# EAGLE library part 3-440054-7 (library 3-440054-7)
HPI 2.0mm,HDR,4posVertical,Red Check availability <https://pricing.snapeda.com/parts/3-440054-7/TE%20Connectivity%20AMP%20Connectors/view-part?ref=eda>
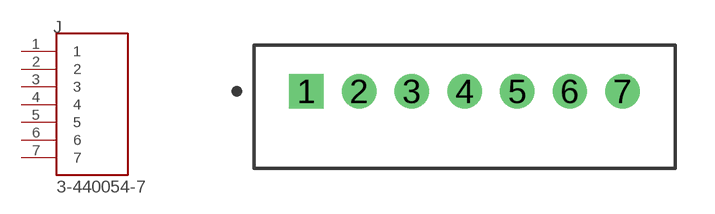
[diagram p0: symbol with the pads of TE_3-440054-7; footprint TE_3-440054-7]

Designator prefix J

## 3-440054-7 (Availability: In Stock; Description: Connector Header Through Hole 7 position 0.079 (2.00mm); MF: TE Connectivity AMP Connectors; MP: 3-440054-7; Package: None; Price: None)  [TE_3-440054-7]
1  1  pas
2  2  pas
3  3  pas
4  4  pas
5  5  pas
6  6  pas
7  7  pas

## Footprint TE_3-440054-7 (pad centres in mm)
drill 0.8 pad 1.15 square: 1 0,0
drill 0.8 pad 1.15: 2 2.007,0; 3 4.013,0; 4 6.02,0; 5 8.026,0; 6 10.033,0; 7 12.04,0